# EAGLE library part L5973D (library ST Microelectronics)
2.5 A switch step down switching regulator
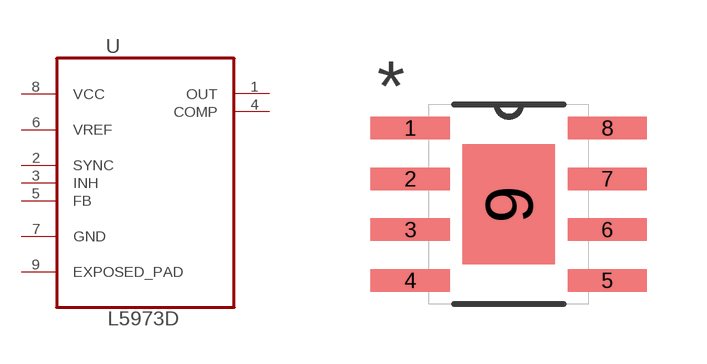
[diagram p42: symbol with the pads of SOP127P600X170-9N; footprint SOP127P600X170-9N]

Designator prefix U

## L5973D (MPN: L5973D; OC_FARNELL: 1077145; OC_NEWARK: 56P8407; PACKAGE: HSOP8; SUPPLIER: STMICROELECTRONICS)  [SOP127P600X170-9N]
1  OUT  out
2  SYNC  in
3  INH  in
4  COMP  out
5  FB  in
6  VREF  pwr
7  GND  pas
8  VCC  pwr
9  EXPOSED_PAD  pas

## Footprint SOP127P600X170-9N (pad centres in mm)
smd 1.981 x 0.559: 1 -2.464,1.905; 2 -2.464,0.635; 3 -2.464,-0.635; 4 -2.464,-1.905; 5 2.464,-1.905; 6 2.464,-0.635; 7 2.464,0.635; 8 2.464,1.905
smd 2.311 x 2.997: 9 0,0